# Altium schematic symbol library Resistors.SchLib: 51 symbols
Pins are listed as number, name and electrical type; pins without a type are passive.

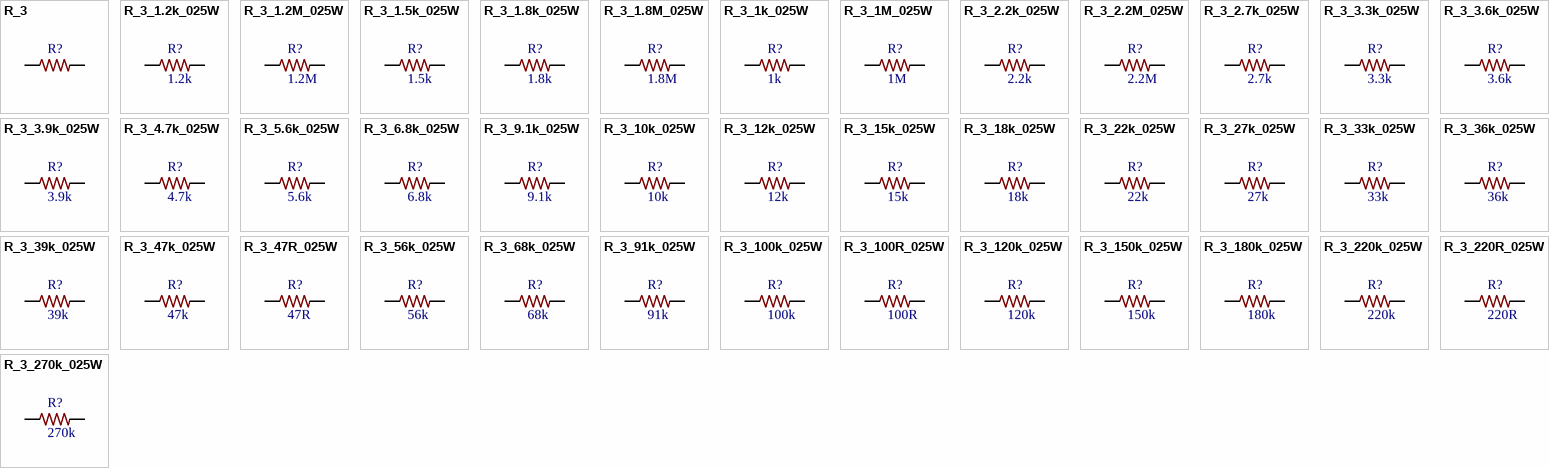
[diagram p0: symbols R_3 to R_3_270k_025W]

## R_3
designator R?
footprint R_3
pins: 1, 2

## R_3_1.2k_025W
designator R?, comment 1.2k
1.2k metal film 1/4W Resistor; PinSpacing: 7.62mm; Price: 0.01
footprint R_3_1.2k_025W
pins: 1, 2

## R_3_1.2M_025W
designator R?, comment 1.2M
1.2M metal film 1/4W Resistor; PinSpacing: 7.62mm; Price: 0.01
footprint R_3_1.2M_025W
pins: 1, 2

## R_3_1.5k_025W
designator R?, comment 1.5k
1.5k metal film 1/4W Resistor; PinSpacing: 7.62mm; Price: 0.01
footprint R_3_1.5k_025W
pins: 1, 2

## R_3_1.8k_025W
designator R?, comment 1.8k
1.8k metal film 1/4W Resistor; PinSpacing: 7.62mm; Price: 0.01
footprint R_3_1.8k_025W
pins: 1, 2

## R_3_1.8M_025W
designator R?, comment 1.8M
1.8M metal film 1/4W Resistor; PinSpacing: 7.62mm; Price: 0.01
footprint R_3_1.8M_025W
pins: 1, 2

## R_3_1k_025W
designator R?, comment 1k
1k metal film 1/4W Resistor; PinSpacing: 7.62mm; Price: 0.01
footprint R_3_1k_025W
pins: 1, 2

## R_3_1M_025W
designator R?, comment 1M
1M metal film 1/4W Resistor; PinSpacing: 7.62mm; Price: 0.01
footprint R_3_1M_025W
pins: 1, 2

## R_3_2.2k_025W
designator R?, comment 2.2k
2.2k metal film 1/4W Resistor; PinSpacing: 7.62mm; Price: 0.01
footprint R_3_2,2k_025W
pins: 1, 2

## R_3_2.2M_025W
designator R?, comment 2.2M
2.2M metal film 1/4W Resistor; PinSpacing: 7.62mm; Price: 0.01
footprint R_3_2,2M_025W
pins: 1, 2

## R_3_2.7k_025W
designator R?, comment 2.7k
2.7k metal film 1/4W Resistor; PinSpacing: 7.62mm; Price: 0.01
footprint R_3_2.7k_025W
pins: 1, 2

## R_3_3.3k_025W
designator R?, comment 3.3k
3.3k metal film 1/4W Resistor; PinSpacing: 7.62mm; Price: 0.01
footprint R_3_3.3k_025W
pins: 1, 2

## R_3_3.6k_025W
designator R?, comment 3.6k
3.6k metal film 1/4W Resistor; PinSpacing: 7.62mm; Price: 0.01
footprint R_3_3.6k_025W
pins: 1, 2

## R_3_3.9k_025W
designator R?, comment 3.9k
3.9k metal film 1/4W Resistor; PinSpacing: 7.62mm; Price: 0.01
footprint R_3_3.9k_025W
pins: 1, 2

## R_3_4.7k_025W
designator R?, comment 4.7k
4.7kk metal film 1/4W Resistor; PinSpacing: 7.62mm; Price: 0.01
footprint R_3_4.7k_025W
pins: 1, 2

## R_3_5.6k_025W
designator R?, comment 5.6k
5.6k metal film 1/4W Resistor; PinSpacing: 7.62mm; Price: 0.01
footprint R_3_5.6k_025W
pins: 1, 2

## R_3_6.8k_025W
designator R?, comment 6.8k
6.8k metal film 1/4W Resistor; PinSpacing: 7.62mm; Price: 0.01
footprint R_3_6.8k_025W
pins: 1, 2

## R_3_9.1k_025W
designator R?, comment 9.1k
9.1k metal film 1/4W Resistor; PinSpacing: 7.62mm; Price: 0.01
footprint R_3_9,1k_025W
pins: 1, 2

## R_3_10k_025W
designator R?, comment 10k
10k metal film 1/4W Resistor; PinSpacing: 7.62mm; Price: 0.01
footprint R_3_10k_025W
pins: 1, 2

## R_3_12k_025W
designator R?, comment 12k
12k metal film 1/4W Resistor; PinSpacing: 7.62mm; Price: 0.01
footprint R_3_12k_025W
pins: 1, 2

## R_3_15k_025W
designator R?, comment 15k
15k metal film 1/4W Resistor; PinSpacing: 7.62mm; Price: 0.01
footprint R_3_15k_025W
pins: 1, 2

## R_3_18k_025W
designator R?, comment 18k
18k metal film 1/4W Resistor; PinSpacing: 7.62mm; Price: 0.01
footprint R_3_18k_025W
pins: 1, 2

## R_3_22k_025W
designator R?, comment 22k
22k metal film 1/4W Resistor; PinSpacing: 7.62mm; Price: 0.01
footprint R_3_22k_025W
pins: 1, 2

## R_3_27k_025W
designator R?, comment 27k
27k metal film 1/4W Resistor; PinSpacing: 7.62mm; Price: 0.01
footprint R_3_27k_025W
pins: 1, 2

## R_3_33k_025W
designator R?, comment 33k
33k metal film 1/4W Resistor; PinSpacing: 7.62mm; Price: 0.01
footprint R_3_33k_025W
pins: 1, 2

## R_3_36k_025W
designator R?, comment 36k
36k metal film 1/4W Resistor; PinSpacing: 7.62mm; Price: 0.01
footprint R_3_36k_025W
pins: 1, 2

## R_3_39k_025W
designator R?, comment 39k
39k metal film 1/4W Resistor; PinSpacing: 7.62mm; Price: 0.01
footprint R_3_39k_025W
pins: 1, 2

## R_3_47k_025W
designator R?, comment 47k
47k metal film 1/4W Resistor; PinSpacing: 7.62mm; Price: 0.01
footprint R_3_47k_025W
pins: 1, 2

## R_3_47R_025W
designator R?, comment 47R
47R metal film 1/4W Resistor; PinSpacing: 7.62mm; Price: 0.01
footprint R_3_47R_025W
pins: 1, 2

## R_3_56k_025W
designator R?, comment 56k
56k metal film 1/4W Resistor; PinSpacing: 7.62mm; Price: 0.01
footprint R_3_56k_025W
pins: 1, 2

## R_3_68k_025W
designator R?, comment 68k
68k metal film 1/4W Resistor; PinSpacing: 7.62mm; Price: 0.01
footprint R_3_68k_025W
pins: 1, 2

## R_3_91k_025W
designator R?, comment 91k
91k metal film 1/4W Resistor; PinSpacing: 7.62mm; Price: 0.01
footprint R_3_91k_025W
pins: 1, 2

## R_3_100k_025W
designator R?, comment 100k
100k metal film 1/4W Resistor; PinSpacing: 7.62mm; Price: 0.01
footprint R_3_100k_025W
pins: 1, 2

## R_3_100R_025W
designator R?, comment 100R
100R metal film 1/4W Resistor; PinSpacing: 7.62mm; Price: 0.01
footprint R_3_100R_025W
pins: 1, 2

## R_3_120k_025W
designator R?, comment 120k
120k metal film 1/4W Resistor; PinSpacing: 7.62mm; Price: 0.01
footprint R_3_120k_025W
pins: 1, 2

## R_3_150k_025W
designator R?, comment 150k
150k metal film 1/4W Resistor; PinSpacing: 7.62mm; Price: 0.01
footprint R_3_150k_025W
pins: 1, 2

## R_3_180k_025W
designator R?, comment 180k
180k metal film 1/4W Resistor; PinSpacing: 7.62mm; Price: 0.01
footprint R_3_180k_025W
pins: 1, 2

## R_3_220k_025W
designator R?, comment 220k
220k metal film 1/4W Resistor; PinSpacing: 7.62mm; Price: 0.01
footprint R_3_220k_025W
pins: 1, 2

## R_3_220R_025W
designator R?, comment 220R
220R metal film 1/4W Resistor; PinSpacing: 7.62mm; Price: 0.01
footprint R_3_220R_025W
pins: 1, 2

## R_3_270k_025W
designator R?, comment 270k
270k metal film 1/4W Resistor; PinSpacing: 7.62mm; Price: 0.01
footprint R_3_270k_025W
pins: 1, 2

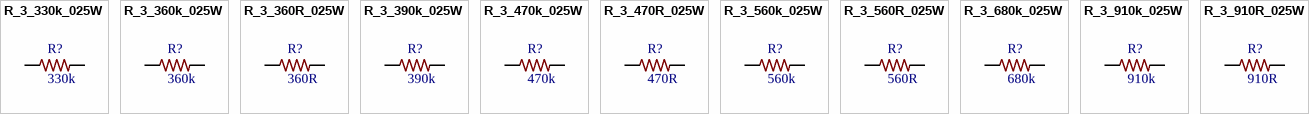
[diagram p1: symbols R_3_330k_025W to R_3_910R_025W]

## R_3_330k_025W
designator R?, comment 330k
330k metal film 1/4W Resistor; PinSpacing: 7.62mm; Price: 0.01
footprint R_3_330k_025W
pins: 1, 2

## R_3_360k_025W
designator R?, comment 360k
360k metal film 1/4W Resistor; PinSpacing: 7.62mm; Price: 0.01
footprint R_3_360k_025W
pins: 1, 2

## R_3_360R_025W
designator R?, comment 360R
360R metal film 1/4W Resistor; PinSpacing: 7.62mm; Price: 0.01
footprint R_3_360R_025W
pins: 1, 2

## R_3_390k_025W
designator R?, comment 390k
390k metal film 1/4W Resistor; PinSpacing: 7.62mm; Price: 0.01
footprint R_3_390k_025W
pins: 1, 2

## R_3_470k_025W
designator R?, comment 470k
470k metal film 1/4W Resistor; PinSpacing: 7.62mm; Price: 0.01
footprint R_3_470k_025W
pins: 1, 2

## R_3_470R_025W
designator R?, comment 470R
470R metal film 1/4W Resistor; PinSpacing: 7.62mm; Price: 0.01
footprint R_3_470R_025W
pins: 1, 2

## R_3_560k_025W
designator R?, comment 560k
560k metal film 1/4W Resistor; PinSpacing: 7.62mm; Price: 0.01
footprint R_3_560k_025W
pins: 1, 2

## R_3_560R_025W
designator R?, comment 560R
560R metal film 1/4W Resistor; PinSpacing: 7.62mm; Price: 0.01
footprint R_3_560R_025W
pins: 1, 2

## R_3_680k_025W
designator R?, comment 680k
680k metal film 1/4W Resistor; PinSpacing: 7.62mm; Price: 0.01
footprint R_3_680k_025W
pins: 1, 2

## R_3_910k_025W
designator R?, comment 910k
910k metal film 1/4W Resistor; PinSpacing: 7.62mm; Price: 0.01
footprint R_3_910k_025W
pins: 1, 2

## R_3_910R_025W
designator R?, comment 910R
910R metal film 1/4W Resistor; PinSpacing: 7.62mm; Price: 0.01
footprint R_3_910R_025W
pins: 1, 2